# Altium schematic symbol library long_creepage_photocoupler.SchLib: 1 symbol
Pins are listed as number, name and electrical type; pins without a type are passive.

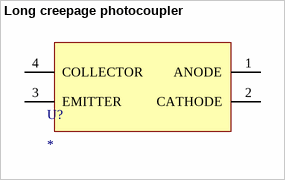
[diagram p0: symbol Long creepage photocoupler]

## Long creepage photocoupler
designator U?
footprint PCBComponent_1
pins: 1 ANODE, 2 CATHODE, 3 EMITTER, 4 COLLECTOR